# Altium footprint library Capacitors.PcbLib: 12 footprints
Each footprint in its own frame and in the unit in brackets; x right, y up, seen from the top. Pads: shape width x height; smd on the part's side, far side on the other; paste and mask are expansions set on the pad; w line width, h text height; cw(c..) or ccw(c..) is an arc to the next point about the centre after c.
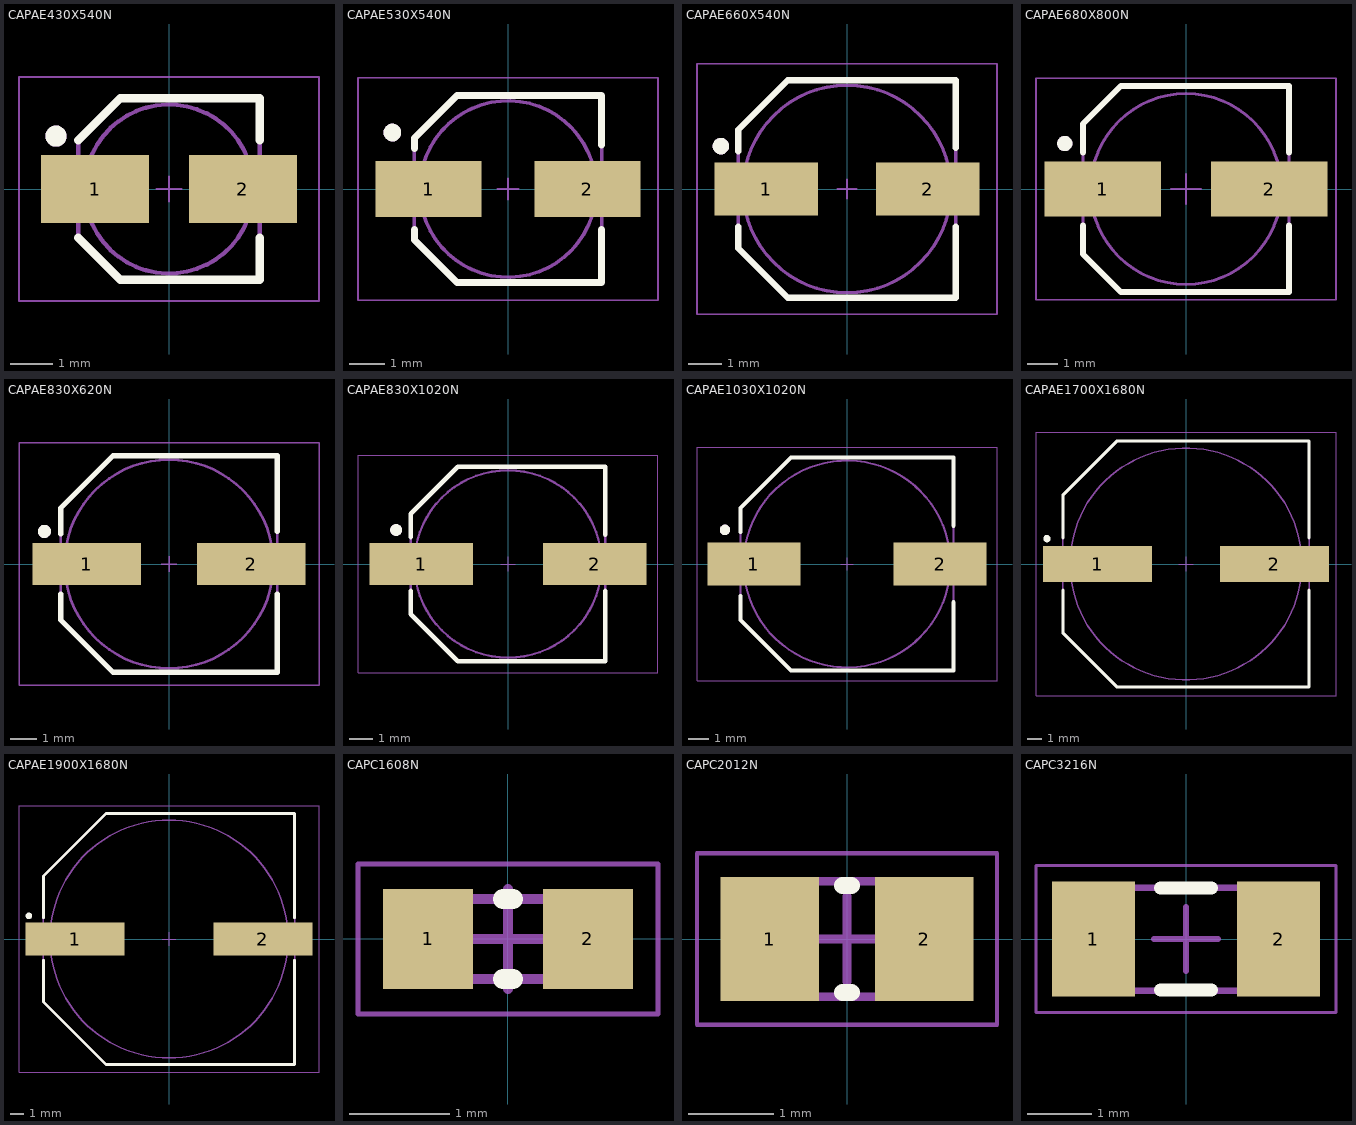
[diagram p0: the footprints below, top view; thin cyan lines are the x and y axes]

## CAPAE430X540N [mm] "Capacitor, Aluminium Electrolytric, 4.3mm L X 4.3mm W X 5.4mm H, IPC Medium Density"
height 5.4
pads (2):
  rect 2.55x1.6 smd: 1(-1.75,0) 2(1.75,0)
Top Overlay:
  circle w0.25: c-2.675,1.25 r0.125
  lines w0.2: -2.15,-1.15 -1.15,-2.15 2.15,-2.15 2.15,-1.15 ; -2.15,1.15 -1.15,2.15 2.15,2.15 2.15,1.15
Mechanical 6:
  text ".Designator" at -0.77,-0.45 h1.5
Mechanical 8:
  circle w0.1: c0,0 r2
  circle w0.25: c-2.675,1.25 r0.125
  lines w0.1: -2.15,-1.15 -2.15,1.15 -1.15,2.15 2.15,2.15 2.15,-2.15 -1.15,-2.15 -2.15,-1.15
Mechanical 15:
  lines w0.05: -0.3,0 0.3,0 ; 0,-0.3 0,0.3 ; -3.55,-2.65 3.55,-2.65 3.55,2.65 -3.55,2.65 -3.55,-2.65
3D body: height 5.7, standoff 0, extent -2.75,-2.25 2.75,2.25

## CAPAE530X540N [mm] "Capacitor, Aluminium Electrolytric, 5.3mm L X 5.3mm W X 5.4mm H, IPC Medium Density"
height 5.4
pads (2):
  rect 3x1.6 smd: 1(-2.25,0) 2(2.25,0)
Top Overlay:
  circle w0.25: c-3.275,1.6 r0.125
  lines w0.2: -2.65,-1.15 -2.65,-1.45 -1.45,-2.65 2.65,-2.65 2.65,-1.15 ; -2.65,1.15 -2.65,1.45 -1.45,2.65 2.65,2.65 2.65,1.25
Mechanical 6:
  text ".Designator" at -0.77,-0.45 h1.5
Mechanical 8:
  circle w0.1: c0,0 r2.5
  circle w0.25: c-3.275,1.6 r0.125
  lines w0.1: -2.65,-1.45 -2.65,1.45 -1.45,2.65 2.65,2.65 2.65,-2.65 -1.45,-2.65 -2.65,-1.45
Mechanical 15:
  lines w0.05: -0.3,0 0.3,0 ; 0,-0.3 0,0.3 ; -4.25,-3.15 4.25,-3.15 4.25,3.15 -4.25,3.15 -4.25,-3.15
3D body: height 5.7, standoff 0, extent -3.25,-2.75 3.25,2.75

## CAPAE660X540N [mm] "Capacitor, Aluminium Electrolytric, 6.6mm L X 6.6mm W X 5.4mm H, IPC Medium Density"
height 5.4
pads (2):
  rect 3.15x1.6 smd: 1(-2.45,0) 2(2.45,0)
Top Overlay:
  circle w0.25: c-3.825,1.3 r0.125
  lines w0.2: -3.3,-1.15 -3.3,-1.8 -1.8,-3.3 3.3,-3.3 3.3,-1.15 ; -3.3,1.15 -3.3,1.8 -1.8,3.3 3.3,3.3 3.3,1.25
Mechanical 6:
  text ".Designator" at -0.77,-0.45 h1.5
Mechanical 8:
  circle w0.25: c-3.825,1.3 r0.125
  circle w0.1: c0,0 r3.15
  lines w0.1: -3.3,-1.8 -1.8,-3.3 3.3,-3.3 3.3,3.3 -1.8,3.3 -3.3,1.8 -3.3,-1.8
Mechanical 15:
  lines w0.05: -0.3,0 0.3,0 ; 0,-0.3 0,0.3 ; -4.55,-3.8 -4.55,3.8 4.55,3.8 4.55,-3.8 -4.55,-3.8
3D body: height 5.7, standoff 0, extent -3.9,-3.4 3.9,3.4

## CAPAE680X800N [mm] "Capacitor, Aluminium Electrolytric, 6.8mm L X 6.8mm W X 8mm H, IPC Medium Density"
height 8
pads (2):
  rect 3.85x1.8 smd: 1(-2.75,0) 2(2.75,0)
Top Overlay:
  circle w0.25: c-4,1.5 r0.125
  lines w0.2: -3.4,-1.2 -3.4,-2.15 -2.15,-3.4 3.4,-3.4 3.4,-1.2 ; -3.4,1.2 -3.4,2.15 -2.15,3.4 3.4,3.4 3.4,1.2
Mechanical 6:
  text ".Designator" at -0.77,-0.45 h1.5
Mechanical 8:
  circle w0.1: c0,0 r3.15
  circle w0.25: c-4,1.5 r0.125
  lines w0.1: -3.4,-2.15 -2.15,-3.4 3.4,-3.4 3.4,3.4 -2.15,3.4 -3.4,2.15 -3.4,-2.15
Mechanical 15:
  lines w0.05: -0.5,0 0.5,0 ; 0,-0.5 0,0.5 ; -4.95,-3.65 -4.95,3.65 4.95,3.65 4.95,-3.65 -4.95,-3.65
3D body: height 8, standoff 0, extent -3.5,-3.4 3.5,3.4

## CAPAE830X620N [mm] "Capacitor, Aluminium Electrolytric, 8.3mm L X 8.3mm W X 6.2mm H, IPC Medium Density"
height 6.2
pads (2):
  rect 4.15x1.6 smd: 1(-3.15,0) 2(3.15,0)
Top Overlay:
  circle w0.25: c-4.775,1.25 r0.125
  lines w0.2: -4.15,-1.15 -4.15,-2.15 -2.15,-4.15 4.15,-4.15 4.15,-1.15 ; -4.15,1.15 -4.15,2.15 -2.15,4.15 4.15,4.15 4.15,1.25
Mechanical 6:
  text ".Designator" at -0.77,-0.45 h1.5
Mechanical 8:
  circle w0.1: c0,0 r4
  circle w0.25: c-4.774,1.251 r0.125
  lines w0.1: -4.15,-2.15 -4.15,2.15 -2.15,4.15 4.15,4.15 4.15,-4.15 -2.15,-4.15 -4.15,-2.15
Mechanical 15:
  lines w0.05: -0.3,0 0.3,0 ; 0,-0.3 0,0.3 ; -5.75,-4.65 5.75,-4.65 5.75,4.65 -5.75,4.65 -5.75,-4.65
3D body: height 6.2, standoff 0, extent -4.75,-4.25 4.75,4.25

## CAPAE830X1020N [mm] "Capacitor, Aluminium Electrolytric, 8.3mm L X 8.3mm W X 10.2mm H, IPC Medium Density"
height 10.2
pads (2):
  rect 4.4x1.8 smd: 1(-3.7,0) 2(3.7,0)
Top Overlay:
  circle w0.25: c-4.775,1.45 r0.125
  lines w0.2: -4.15,-1.15 -4.15,-2.15 -2.15,-4.15 4.15,-4.15 4.15,-1.15 ; -4.15,1.15 -4.15,2.15 -2.15,4.15 4.15,4.15 4.15,1.25
Mechanical 6:
  text ".Designator" at -0.77,-0.45 h1.5
Mechanical 8:
  circle w0.1: c0,0 r4
  circle w0.25: c-4.775,1.45 r0.125
  lines w0.1: -4.15,-2.15 -4.15,2.15 -2.15,4.15 4.15,4.15 4.15,-4.15 -2.15,-4.15 -4.15,-2.15
Mechanical 15:
  lines w0.05: -0.3,0 0.3,0 ; 0,-0.3 0,0.3 ; -6.4,-4.65 6.4,-4.65 6.4,4.65 -6.4,4.65 -6.4,-4.65
3D body: height 10.2, standoff 0, extent -4.75,-4.25 5.25,4.25

## CAPAE1030X1020N [mm] "Capacitor, Aluminium Electrolytric, 10.3mm L X 10.3mm W X 10.2mm H, IPC Medium Density"
height 10.2
pads (2):
  rect 4.5x2.1 smd: 1(-4.5,0) 2(4.5,0)
Top Overlay:
  circle w0.25: c-5.9,1.65 r0.125
  lines w0.2: -5.15,-1.55 -5.15,-2.35 -5.15,-2.7 -2.7,-5.15 5.15,-5.15 5.15,-1.85 ; -5.15,1.55 -5.15,2.7 -2.7,5.15 5.15,5.15 5.15,1.85
Mechanical 6:
  text ".Designator" at -0.77,-0.45 h1.5
Mechanical 8:
  circle w0.1: c0,0 r5
  circle w0.25: c-5.899,1.651 r0.125
  lines w0.1: -5.15,-2.7 -2.7,-5.15 5.15,-5.15 5.15,5.15 -2.7,5.15 -5.15,2.7 -5.15,-2.7
Mechanical 15:
  lines w0.05: -0.3,0 0.3,0 ; 0,-0.3 0,0.3 ; -7.25,-5.65 -7.25,5.65 7.25,5.65 7.25,-5.65 -7.25,-5.65
3D body: height 10.2, standoff 0, extent -6,-5.25 6,5.25

## CAPAE1700X1680N [mm] "Capacitor,Aluminum Electrolytic; 17.00mm L X 17.00mm W X 16.80mm H , IPC Medium Density"
height 16.8
pads (2):
  rect 7.5x2.5 smd: 1(-6.1,0) 2(6.1,0)
Top Overlay:
  circle w0.25: c-9.6,1.75 r0.125
  lines w0.2: -8.5,-1.8 -8.5,-4.75 -4.75,-8.5 8.5,-8.5 8.5,-1.8 ; -8.5,1.8 -8.5,4.75 -4.75,8.5 8.5,8.5 8.5,1.8
Mechanical 6:
  text ".Designator" at -0.77,-0.45 h1.5
Mechanical 8:
  circle w0.1: c0,0 r8
  lines w0.1: -8.5,-4.75 -8.5,4.75 -4.75,8.5 8.5,8.5 8.5,-8.5 -4.75,-8.5 -8.5,-4.75
Mechanical 15:
  lines w0.05: -0.5,0 0.5,0 ; 0,-0.5 0,0.5 ; -10.35,-9.1 -10.35,9.1 10.35,9.1 10.35,-9.1 -10.35,-9.1
3D body: height 16.8, standoff 0, extent -9.3,-8.6 9.3,8.6

## CAPAE1900X1680N [mm] "Capacitor,Aluminum Electrolytic; 19.00mm L X 19.00mm W X 16.80mm H , IPC Medium Density"
height 16.8
pads (2):
  rect 7.5x2.5 smd: 1(-7.1,0) 2(7.1,0)
Top Overlay:
  circle w0.25: c-10.6,1.75 r0.125
  lines w0.2: -9.5,-1.6 -9.5,-4.75 -4.75,-9.5 9.5,-9.5 9.5,-1.6 ; -9.5,1.6 -9.5,4.75 -4.75,9.5 9.5,9.5 9.5,1.6
Mechanical 6:
  text ".Designator" at -0.77,-0.45 h1.5
Mechanical 8:
  circle w0.1: c0,0 r9
  lines w0.1: -9.5,-4.75 -4.75,-9.5 9.5,-9.5 9.5,9.5 -4.75,9.5 -9.5,4.75 -9.5,-4.75
Mechanical 15:
  lines w0.05: -0.5,0 0.5,0 ; 0,-0.5 0,0.5 ; -11.35,-10.1 11.35,-10.1 11.35,10.1 -11.35,10.1 -11.35,-10.1
3D body: height 16.8, standoff 0, extent -10.5,-9.6 10.5,9.6

## CAPC1608N [mm] "Chip Capacitor, Body 1.6x0.8mm, Height 0.55mm, IPC Medium Density"
height 0.55
pads (2):
  rect 0.9x1 smd: 1(-0.8,0) 2(0.8,0)
Top Overlay:
  lines w0.2: -0.05,-0.4 0.05,-0.4 ; -0.05,0.4 0.05,0.4
Mechanical 6:
  text ".Designator" at -0.675,-0.225 h0.75
Mechanical 8:
  lines w0.1: -0.8,-0.4 -0.8,0.4 0.8,0.4 0.8,-0.4 -0.8,-0.4
Mechanical 15:
  lines w0.05: -1.5,-0.75 1.5,-0.75 1.5,0.75 -1.5,0.75 -1.5,-0.75
  lines w0.1: -0.5,0 0.5,0 ; 0,-0.5 0,0.5
3D body: height 0.54, standoff -0.01, extent -0.8,-0.4 0.8,0.4

## CAPC2012N [mm] "Chip Capacitor, Body 2.0x1.25mm, IPC Medium Density"
height 1.1
pads (2):
  rect 1.15x1.45 smd: 1(-0.9,0) 2(0.9,0)
Top Overlay:
  lines w0.2: -0.05,-0.625 0.05,-0.625 ; -0.05,0.625 0.05,0.625
Mechanical 6:
  text ".Designator" at -0.849,-0.386 h1.3
Mechanical 8:
  lines w0.1: -1.05,-0.675 1.05,-0.675 1.05,0.675 -1.05,0.675 -1.05,-0.675
Mechanical 15:
  lines w0.05: -1.75,-1 1.75,-1 1.75,1 -1.75,1 -1.75,-1
  lines w0.1: -0.5,0 0.5,0 ; 0,-0.5 0,0.5
3D body: height 1.1, standoff 0, extent -1.05,-0.675 1.05,0.675

## CAPC3216N [mm] "Chip Capacitor, Body 3.2x1.6mm, IPC Medium Density"
height 1.35
pads (2):
  rect 1.3x1.8 smd: 1(-1.45,0) 2(1.45,0)
Top Overlay:
  lines w0.2: -0.4,-0.8 0.4,-0.8 ; -0.4,0.8 0.4,0.8
Mechanical 6:
  text ".Designator" at -1.375,-0.465 h1.5
Mechanical 8:
  lines w0.1: -1.6,-0.81 -1.6,0.805 1.6,0.805 1.6,-0.81 -1.6,-0.81
Mechanical 15:
  lines w0.05: -2.35,-1.15 -2.35,1.15 2.35,1.15 2.35,-1.15 -2.35,-1.15
  lines w0.1: -0.5,0 0.5,0 ; 0,-0.5 0,0.5
3D body: height 1.37, standoff 0, extent -1.6,-0.81 1.6,0.81